# EAGLE library part LIS3MDLTR (library REEF_LIB)
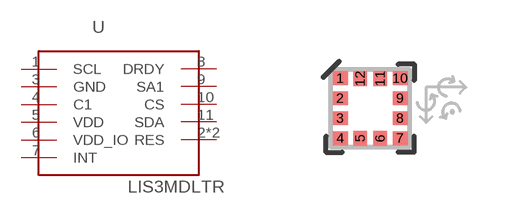
[diagram p0: symbol with the pads of LGA-12; footprint LGA-12]

Designator prefix -

## LIS3MDLTR  [LGA-12]
1  SCL
2  RES
3  GND
4  C1
5  VDD
6  VDD_IO
7  INT
8  DRDY
9  SA1
10  CS
11  SDA
12  RES

## Footprint LGA-12 (pad centres in mm)
LGA-12 2x2x1 mm 12-lead 0.50mm pitch Pads are 0.25x0.275 mm Derrived from the following ST PDFs http://www.st.com/st-web-ui/static/active/en/resource/technical/document/datasheet/DM00089896.pdf http://www.st.com/web/en/resource/technical/document/technical_note/CD00134799.pdf
smd 0.375 x 0.35: 1 -0.75,0.75; 2 -0.75,0.25; 3 -0.75,-0.25; 4 -0.75,-0.75; 7 0.75,-0.75; 8 0.75,-0.25; 9 0.75,0.25; 10 0.75,0.75
smd 0.35 x 0.375: 5 -0.25,-0.75; 6 0.25,-0.75; 11 0.25,0.75; 12 -0.25,0.75